# Altium footprint library DO.PcbLib: 2 footprints
Each footprint in its own frame and in the unit in brackets; x right, y up, seen from the top. Pads: shape width x height; smd on the part's side, far side on the other; paste and mask are expansions set on the pad; w line width, h text height; cw(c..) or ccw(c..) is an arc to the next point about the centre after c.
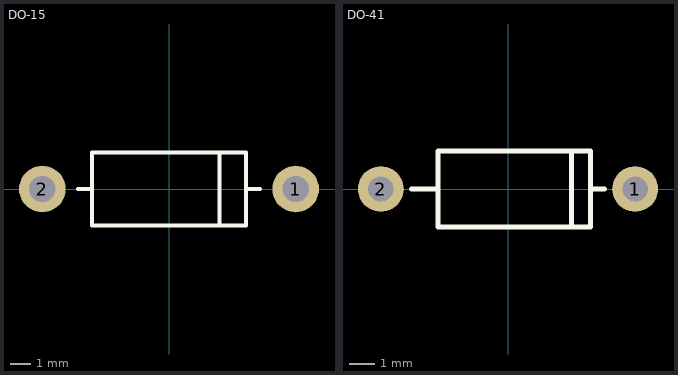
[diagram p0: the footprints below, top view; thin cyan lines are the x and y axes]

## DO-15 [mm] "DO-15"
pads (2):
  round 2.3 hole 1.3: 1(6.25,0) 2(-6.25,0)
Top Overlay:
  lines w0.2: -4.5,0 -3.8,0 ; 2.5,-1.8 2.5,1.8 ; 3.8,0 4.5,0 ; -3.8,-1.8 3.8,-1.8 3.8,1.8 -3.8,1.8 -3.8,-1.8
3D body: height 3.6, standoff 0, extent 2.8,-1.799 3.8,1.799
3D body: height 3.6, standoff 0, extent 1.8,-1.799 2.8,1.8
3D body: height 3.6, standoff 0, extent -3.8,-1.8 1.8,1.8

## DO-41 [mm] "DO-41"
pads (2):
  round 1.8 hole 1: 1(5,0) 2(-5,0)
Top Overlay:
  lines w0.2: -3.8,0 -2.75,0 ; 2.5,1.498 2.5,-1.5 ; 3.25,0 3.8,0 ; -2.75,-1.5 -2.75,1.5 3.25,1.5 3.25,-1.5 -2.75,-1.5
3D body: height 2, standoff 0, extent -2.75,-1 1.25,0.998
3D body: height 2, standoff 0, extent 1.25,-0.999 2.25,1
3D body: height 2, standoff 0, extent 2.25,-1.001 3.25,0.998